# Altium footprint library LEDs.PcbLib: 2 footprints
Each footprint in its own frame and in the unit in brackets; x right, y up, seen from the top. Pads: shape width x height; smd on the part's side, far side on the other; paste and mask are expansions set on the pad; w line width, h text height; cw(c..) or ccw(c..) is an arc to the next point about the centre after c.
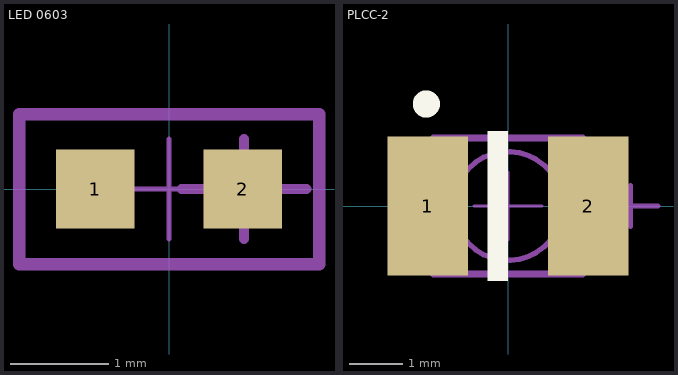
[diagram p0: the footprints below, top view; thin cyan lines are the x and y axes]

## LED 0603 [mm]
pads (2):
  rect 0.8x0.8 smd: 1(-0.75,0) 2(0.75,0)
Mechanical 13:
  lines w0.1: 0.127,0 1.397,0 ; 0.762,-0.508 0.762,0.508 ; -1.524,-0.762 1.524,-0.762 1.524,0.762 -1.524,0.762 -1.524,-0.762
Mechanical 15:
  lines w0.05: -0.508,0 0.508,0 ; 0,-0.508 0,0.508
  lines w0.1: 0.762,0 1.27,0 ; 1.016,-0.254 1.016,0.254
  lines w0.127: -1.524,-0.762 -1.524,0.762 1.524,0.762 1.524,-0.762 -1.524,-0.762
3D body "LTST-C190EKT.STEP": height 0.9, standoff 0, extent -0.85,-0.45 0.85,0.45

## PLCC-2 [mm]
pads (2):
  rect 1.5x2.6 smd: 1(-1.5,0) 2(1.5,0)
Top Overlay:
  circle w0.254: c-1.524,1.905 r0.127
  rectangle: -0.381,-1.397 0,1.397
Mechanical 13:
  circle w0.1: c0,0 r1.016
  lines w0.1: 1.524,0 2.794,0 ; 2.159,-0.635 2.159,0.635
  lines w0.127: -1.397,-1.27 1.397,-1.27 1.397,1.27 -1.397,1.27 -1.397,-1.27
  text ".Designator" at -0.635,1.524 h0.6
Mechanical 15:
  circle w0.1: c0,0 r1.016
  lines w0.05: -0.635,0 0.635,0 ; 0,-0.635 0,0.635
  lines w0.1: 1.905,0 2.667,0 ; 2.286,-0.381 2.286,0.381
  lines w0.127: -1.397,-1.27 -1.397,1.27 1.397,1.27 1.397,-1.27 -1.397,-1.27
3D body "User Library-HSMx-A10x-xxxxx SMD LED PLCC-2.STEP": height 1.91, standoff 0.01, extent -1.75,-1.4 1.75,1.4